# EAGLE library part 6PIN*1.5MM (library usb)
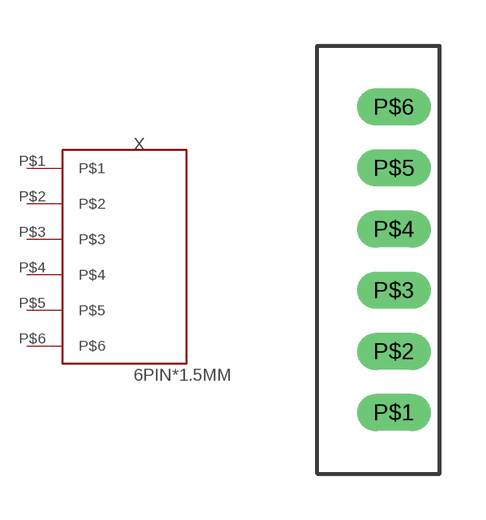
[diagram p8: symbol with the pads of 6PIN*1.5MM; footprint 6PIN*1.5MM]

Designator prefix X

## 6PIN1.5MM  [6PIN*1.5MM]
P$1  P$1
P$2  P$2
P$3  P$3
P$4  P$4
P$5  P$5
P$6  P$6

## Footprint 6PIN*1.5MM (pad centres in mm)
drill 0.7 long: P$1 0,0; P$2 0,2; P$3 0,4; P$4 0,6; P$5 0,8; P$6 0,10